# Altium schematic symbol library SCH - MCU - SI LABS - SI LABS EFM32WG990F256 112-PIN BGA 10X10.SchLib: 1 symbol
Pins are listed as number, name and electrical type; pins without a type are passive.

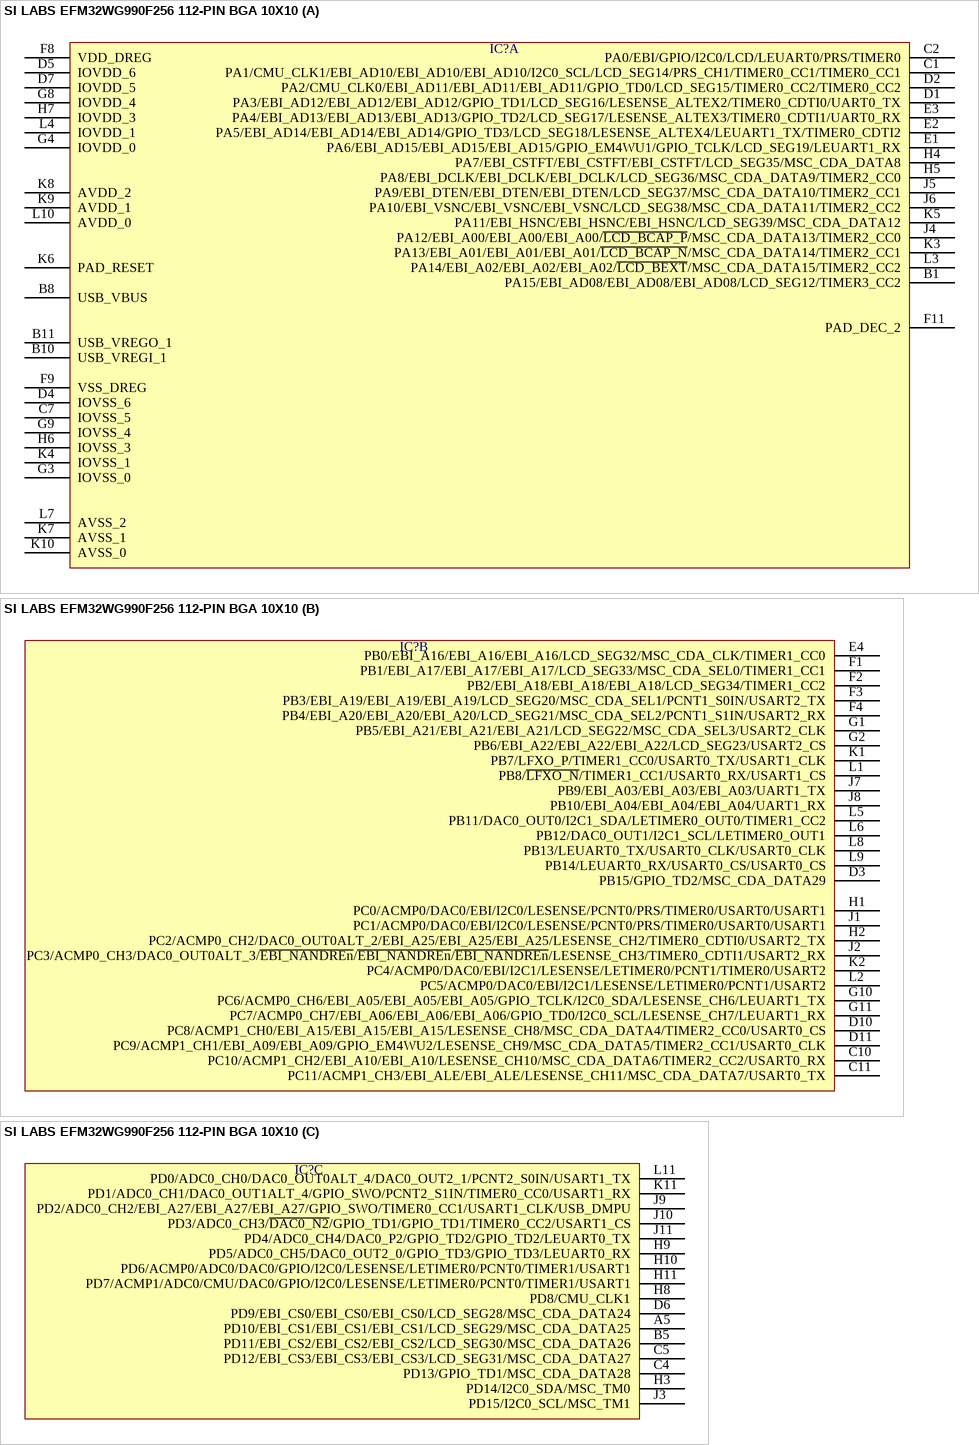
[diagram p0: symbol SI LABS EFM32WG990F256 112-PIN BGA 10X10]

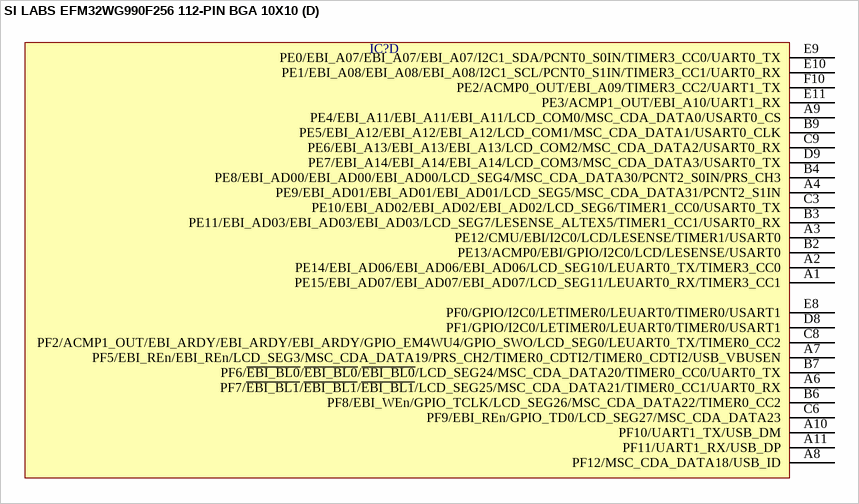
[diagram p1: symbol SI LABS EFM32WG990F256 112-PIN BGA 10X10]

## SI LABS EFM32WG990F256 112-PIN BGA 10X10
designator IC?  (value not drawn)
part A pins: B1 PA15/EBI_AD08/EBI_AD08/EBI_AD08/LCD_SEG12/TIMER3_CC2, B8 USB_VBUS, B10 USB_VREGI_1, B11 USB_VREGO_1, C1 PA1/CMU_CLK1/EBI_AD10/EBI_AD10/EBI_AD10/I2C0_SCL/LCD_SEG14/PRS_CH1/TIMER0_CC1/TIMER0_CC1, C2 PA0/EBI/GPIO/I2C0/LCD/LEUART0/PRS/TIMER0, C7 IOVSS_5, D1 PA3/EBI_AD12/EBI_AD12/EBI_AD12/GPIO_TD1/LCD_SEG16/LESENSE_ALTEX2/TIMER0_CDTI0/UART0_TX, D2 PA2/CMU_CLK0/EBI_AD11/EBI_AD11/EBI_AD11/GPIO_TD0/LCD_SEG15/TIMER0_CC2/TIMER0_CC2, D4 IOVSS_6, D5 IOVDD_6, D7 IOVDD_5, E1 PA6/EBI_AD15/EBI_AD15/EBI_AD15/GPIO_EM4WU1/GPIO_TCLK/LCD_SEG19/LEUART1_RX, E2 PA5/EBI_AD14/EBI_AD14/EBI_AD14/GPIO_TD3/LCD_SEG18/LESENSE_ALTEX4/LEUART1_TX/TIMER0_CDTI2, E3 PA4/EBI_AD13/EBI_AD13/EBI_AD13/GPIO_TD2/LCD_SEG17/LESENSE_ALTEX3/TIMER0_CDTI1/UART0_RX, F8 VDD_DREG, F9 VSS_DREG, F11 PAD_DEC_2, G3 IOVSS_0, G4 IOVDD_0, G8 IOVDD_4, G9 IOVSS_4, H4 PA7/EBI_CSTFT/EBI_CSTFT/EBI_CSTFT/LCD_SEG35/MSC_CDA_DATA8, H5 PA8/EBI_DCLK/EBI_DCLK/EBI_DCLK/LCD_SEG36/MSC_CDA_DATA9/TIMER2_CC0, H6 IOVSS_3, H7 IOVDD_3, J4 PA12/EBI_A00/EBI_A00/EBI_A00/~{LCD_BCAP_P}/MSC_CDA_DATA13/TIMER2_CC0, J5 PA9/EBI_DTEN/EBI_DTEN/EBI_DTEN/LCD_SEG37/MSC_CDA_DATA10/TIMER2_CC1, J6 PA10/EBI_VSNC/EBI_VSNC/EBI_VSNC/LCD_SEG38/MSC_CDA_DATA11/TIMER2_CC2, K3 PA13/EBI_A01/EBI_A01/EBI_A01/~{LCD_BCAP_N}/MSC_CDA_DATA14/TIMER2_CC1, K4 IOVSS_1, K5 PA11/EBI_HSNC/EBI_HSNC/EBI_HSNC/LCD_SEG39/MSC_CDA_DATA12, K6 PAD_RESET, K7 AVSS_1, K8 AVDD_2, K9 AVDD_1, K10 AVSS_0, L3 PA14/EBI_A02/EBI_A02/EBI_A02/~{LCD_BEXT}/MSC_CDA_DATA15/TIMER2_CC2, L4 IOVDD_1, L7 AVSS_2, L10 AVDD_0
part B pins: C10 PC10/ACMP1_CH2/EBI_A10/EBI_A10/LESENSE_CH10/MSC_CDA_DATA6/TIMER2_CC2/USART0_RX, C11 PC11/ACMP1_CH3/EBI_ALE/EBI_ALE/LESENSE_CH11/MSC_CDA_DATA7/USART0_TX, D3 PB15/GPIO_TD2/MSC_CDA_DATA29, D10 PC8/ACMP1_CH0/EBI_A15/EBI_A15/EBI_A15/LESENSE_CH8/MSC_CDA_DATA4/TIMER2_CC0/USART0_CS, D11 PC9/ACMP1_CH1/EBI_A09/EBI_A09/GPIO_EM4WU2/LESENSE_CH9/MSC_CDA_DATA5/TIMER2_CC1/USART0_CLK, E4 PB0/EBI_A16/EBI_A16/EBI_A16/LCD_SEG32/MSC_CDA_CLK/TIMER1_CC0, F1 PB1/EBI_A17/EBI_A17/EBI_A17/LCD_SEG33/MSC_CDA_SEL0/TIMER1_CC1, F2 PB2/EBI_A18/EBI_A18/EBI_A18/LCD_SEG34/TIMER1_CC2, F3 PB3/EBI_A19/EBI_A19/EBI_A19/LCD_SEG20/MSC_CDA_SEL1/PCNT1_S0IN/USART2_TX, F4 PB4/EBI_A20/EBI_A20/EBI_A20/LCD_SEG21/MSC_CDA_SEL2/PCNT1_S1IN/USART2_RX, G1 PB5/EBI_A21/EBI_A21/EBI_A21/LCD_SEG22/MSC_CDA_SEL3/USART2_CLK, G2 PB6/EBI_A22/EBI_A22/EBI_A22/LCD_SEG23/USART2_CS, G10 PC6/ACMP0_CH6/EBI_A05/EBI_A05/EBI_A05/GPIO_TCLK/I2C0_SDA/LESENSE_CH6/LEUART1_TX, G11 PC7/ACMP0_CH7/EBI_A06/EBI_A06/EBI_A06/GPIO_TD0/I2C0_SCL/LESENSE_CH7/LEUART1_RX, H1 PC0/ACMP0/DAC0/EBI/I2C0/LESENSE/PCNT0/PRS/TIMER0/USART0/USART1, H2 PC2/ACMP0_CH2/DAC0_OUT0ALT_2/EBI_A25/EBI_A25/EBI_A25/LESENSE_CH2/TIMER0_CDTI0/USART2_TX, J1 PC1/ACMP0/DAC0/EBI/I2C0/LESENSE/PCNT0/PRS/TIMER0/USART0/USART1, J2 PC3/ACMP0_CH3/DAC0_OUT0ALT_3/~{EBI_NANDREn}/~{EBI_NANDREn}/~{EBI_NANDREn}/LESENSE_CH3/TIMER0_CDTI1/USART2_RX, J7 PB9/EBI_A03/EBI_A03/EBI_A03/UART1_TX, J8 PB10/EBI_A04/EBI_A04/EBI_A04/UART1_RX, K1 PB7/LFXO_P/TIMER1_CC0/USART0_TX/USART1_CLK, K2 PC4/ACMP0/DAC0/EBI/I2C1/LESENSE/LETIMER0/PCNT1/TIMER0/USART2, L1 PB8/~{LFXO_N}/TIMER1_CC1/USART0_RX/USART1_CS, L2 PC5/ACMP0/DAC0/EBI/I2C1/LESENSE/LETIMER0/PCNT1/USART2, L5 PB11/DAC0_OUT0/I2C1_SDA/LETIMER0_OUT0/TIMER1_CC2, L6 PB12/DAC0_OUT1/I2C1_SCL/LETIMER0_OUT1, L8 PB13/LEUART0_TX/USART0_CLK/USART0_CLK, L9 PB14/LEUART0_RX/USART0_CS/USART0_CS
part C pins: A5 PD10/EBI_CS1/EBI_CS1/EBI_CS1/LCD_SEG29/MSC_CDA_DATA25, B5 PD11/EBI_CS2/EBI_CS2/EBI_CS2/LCD_SEG30/MSC_CDA_DATA26, C4 PD13/GPIO_TD1/MSC_CDA_DATA28, C5 PD12/EBI_CS3/EBI_CS3/EBI_CS3/LCD_SEG31/MSC_CDA_DATA27, D6 PD9/EBI_CS0/EBI_CS0/EBI_CS0/LCD_SEG28/MSC_CDA_DATA24, H3 PD14/I2C0_SDA/MSC_TM0, H8 PD8/CMU_CLK1, H9 PD5/ADC0_CH5/DAC0_OUT2_0/GPIO_TD3/GPIO_TD3/LEUART0_RX, H10 PD6/ACMP0/ADC0/DAC0/GPIO/I2C0/LESENSE/LETIMER0/PCNT0/TIMER1/USART1, H11 PD7/ACMP1/ADC0/CMU/DAC0/GPIO/I2C0/LESENSE/LETIMER0/PCNT0/TIMER1/USART1, J3 PD15/I2C0_SCL/MSC_TM1, J9 PD2/ADC0_CH2/EBI_A27/EBI_A27/EBI_A27/GPIO_SWO/TIMER0_CC1/USART1_CLK/USB_DMPU, J10 PD3/ADC0_CH3/~{DAC0_N2}/GPIO_TD1/GPIO_TD1/TIMER0_CC2/USART1_CS, J11 PD4/ADC0_CH4/DAC0_P2/GPIO_TD2/GPIO_TD2/LEUART0_TX, K11 PD1/ADC0_CH1/DAC0_OUT1ALT_4/GPIO_SWO/PCNT2_S1IN/TIMER0_CC0/USART1_RX, L11 PD0/ADC0_CH0/DAC0_OUT0ALT_4/DAC0_OUT2_1/PCNT2_S0IN/USART1_TX
part D pins: A1 PE15/EBI_AD07/EBI_AD07/EBI_AD07/LCD_SEG11/LEUART0_RX/TIMER3_CC1, A2 PE14/EBI_AD06/EBI_AD06/EBI_AD06/LCD_SEG10/LEUART0_TX/TIMER3_CC0, A3 PE12/CMU/EBI/I2C0/LCD/LESENSE/TIMER1/USART0, A4 PE9/EBI_AD01/EBI_AD01/EBI_AD01/LCD_SEG5/MSC_CDA_DATA31/PCNT2_S1IN, A6 PF7/~{EBI_BL1}/~{EBI_BL1}/~{EBI_BL1}/LCD_SEG25/MSC_CDA_DATA21/TIMER0_CC1/UART0_RX, A7 PF5/EBI_REn/EBI_REn/LCD_SEG3/MSC_CDA_DATA19/PRS_CH2/TIMER0_CDTI2/TIMER0_CDTI2/USB_VBUSEN, A8 PF12/MSC_CDA_DATA18/USB_ID, A9 PE4/EBI_A11/EBI_A11/EBI_A11/LCD_COM0/MSC_CDA_DATA0/USART0_CS, A10 PF10/UART1_TX/USB_DM, A11 PF11/UART1_RX/USB_DP, B2 PE13/ACMP0/EBI/GPIO/I2C0/LCD/LESENSE/USART0, B3 PE11/EBI_AD03/EBI_AD03/EBI_AD03/LCD_SEG7/LESENSE_ALTEX5/TIMER1_CC1/USART0_RX, B4 PE8/EBI_AD00/EBI_AD00/EBI_AD00/LCD_SEG4/MSC_CDA_DATA30/PCNT2_S0IN/PRS_CH3, B6 PF8/EBI_WEn/GPIO_TCLK/LCD_SEG26/MSC_CDA_DATA22/TIMER0_CC2, B7 PF6/~{EBI_BL0}/~{EBI_BL0}/~{EBI_BL0}/LCD_SEG24/MSC_CDA_DATA20/TIMER0_CC0/UART0_TX, B9 PE5/EBI_A12/EBI_A12/EBI_A12/LCD_COM1/MSC_CDA_DATA1/USART0_CLK, C3 PE10/EBI_AD02/EBI_AD02/EBI_AD02/LCD_SEG6/TIMER1_CC0/USART0_TX, C6 PF9/EBI_REn/GPIO_TD0/LCD_SEG27/MSC_CDA_DATA23, C8 PF2/ACMP1_OUT/EBI_ARDY/EBI_ARDY/EBI_ARDY/GPIO_EM4WU4/GPIO_SWO/LCD_SEG0/LEUART0_TX/TIMER0_CC2, C9 PE6/EBI_A13/EBI_A13/EBI_A13/LCD_COM2/MSC_CDA_DATA2/USART0_RX, D8 PF1/GPIO/I2C0/LETIMER0/LEUART0/TIMER0/USART1, D9 PE7/EBI_A14/EBI_A14/EBI_A14/LCD_COM3/MSC_CDA_DATA3/USART0_TX, E8 PF0/GPIO/I2C0/LETIMER0/LEUART0/TIMER0/USART1, E9 PE0/EBI_A07/EBI_A07/EBI_A07/I2C1_SDA/PCNT0_S0IN/TIMER3_CC0/UART0_TX, E10 PE1/EBI_A08/EBI_A08/EBI_A08/I2C1_SCL/PCNT0_S1IN/TIMER3_CC1/UART0_RX, E11 PE3/ACMP1_OUT/EBI_A10/UART1_RX, F10 PE2/ACMP0_OUT/EBI_A09/TIMER3_CC2/UART1_TX